# Altium integrated library HC-49_U-S16000000ABJB.IntLib: 1 symbol
Pins are listed as number, name and electrical type; pins without a type are passive.

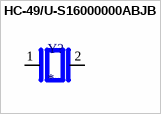
[diagram p0: symbol HC-49/U-S16000000ABJB]

## HC-49/U-S16000000ABJB
designator Y?
16 MHz Â±30ppm Crystal 18pF 50 Ohms HC-49/US; MF: Citizen Finedevice; MP: HC-49/U-S16000000ABJB; SnapEDA_Link: https://www.snapeda.com/parts/HC-49/U-S16000000ABJB/Citizen/view-part/?ref=snap; Package: HC-49/US Citizen Finetech Miyota; Value: *; Check_prices: https://www.snapeda.com/parts/HC-49/U-S16000000ABJB/Citizen/view-part/?ref=eda
footprint XTAL_HC49P488W43L1150T466H350
pins: 1, 2